# Altium footprint library Crystals.PcbLib: 10 footprints
Each footprint in its own frame and in the unit in brackets; x right, y up, seen from the top. Pads: shape width x height; smd on the part's side, far side on the other; paste and mask are expansions set on the pad; w line width, h text height; cw(c..) or ccw(c..) is an arc to the next point about the centre after c.
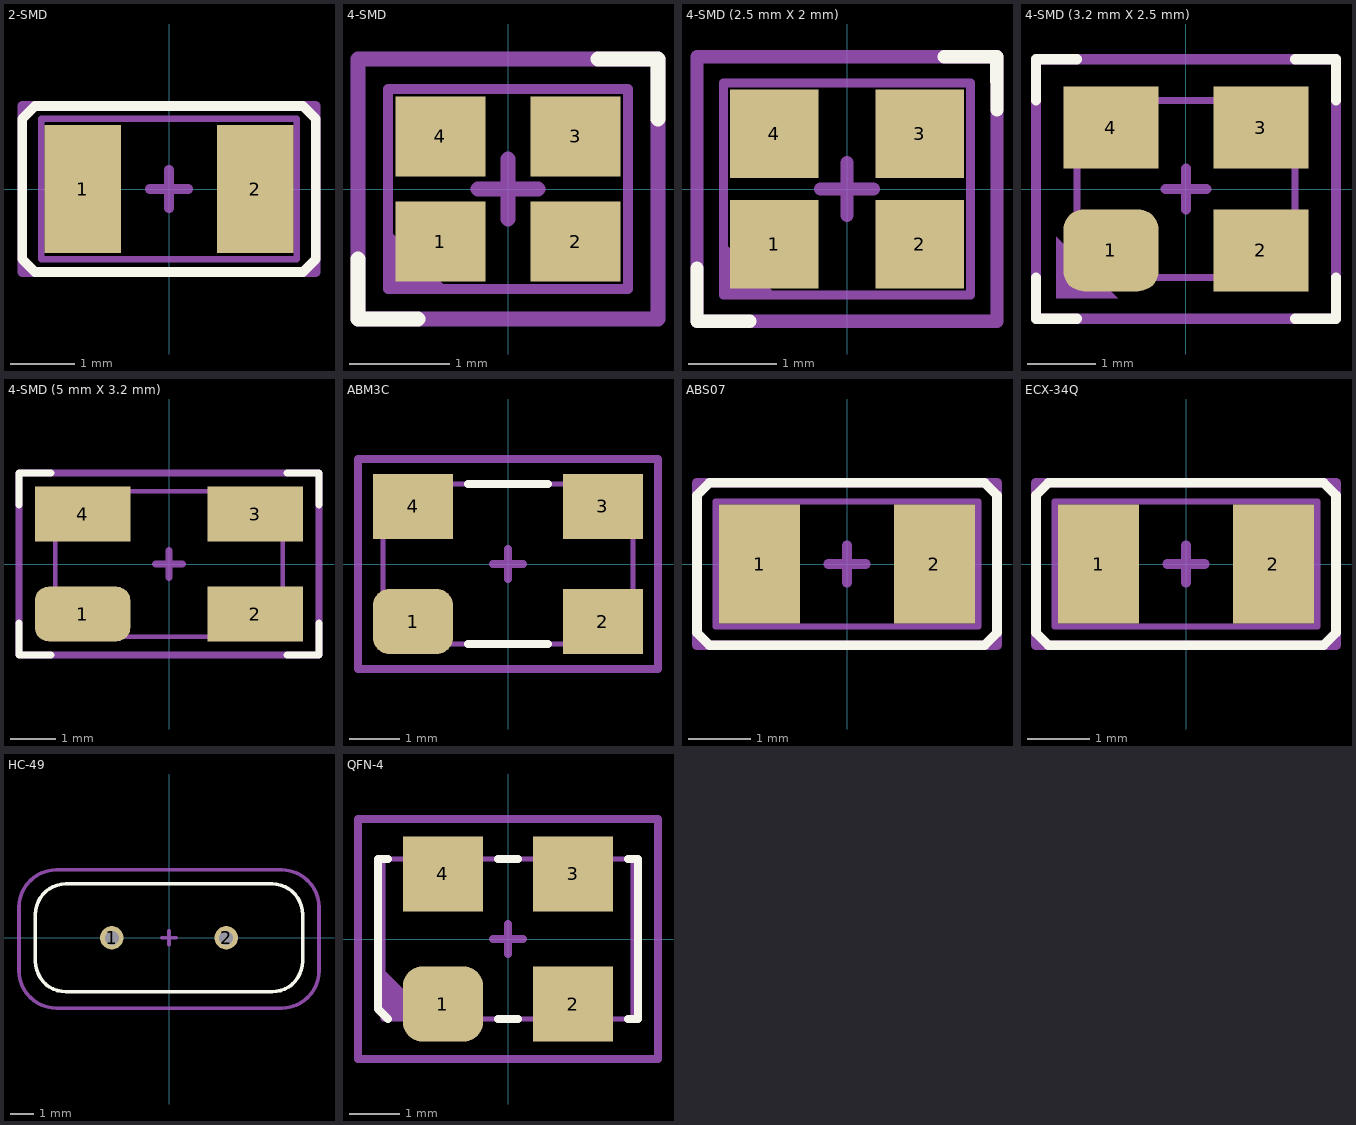
[diagram p0: the footprints below, top view; thin cyan lines are the x and y axes]

## 2-SMD [mm]
pads (2):
  rect 1.2x2 smd: 1(-1.35,0) 2(1.35,0)
Top Overlay:
  lines w0.153: -2.3,-1.1 -2.3,1.1 -2.1,1.3 2.1,1.3 2.3,1.1 2.3,-1.1 2.1,-1.3 2,-1.3 -2.1,-1.3 -2.3,-1.1
Top Assembly:
  lines w0.1: -2,-1.1 2,-1.1 2,1.1 -2,1.1 -2,-1.1
  text "'.Designator'" at -4.532,-0.333 h0.8
Top Courtyard:
  lines w0.153: -0.3,0 0.3,0 ; 0,-0.3 0,0.3 ; -2.3,-1.3 -2.3,1.3 2.3,1.3 2.3,-1.3 -2.3,-1.3
3D body "User Library-NDK_NX3215SA.step": height 0.8, standoff 0, extent -1.6,-0.75 1.6,0.75

## 4-SMD [mm]
pads (4):
  rect 0.9x0.8 smd: 1(-0.675,-0.525) 2(0.675,-0.525) 3(0.675,0.525) 4(-0.675,0.525)
Top Overlay:
  lines w0.153: -1.5,-0.7 -1.5,-1.3 -0.9,-1.3 ; 0.9,1.3 1.5,1.3 1.5,0.7
Top Assembly:
  region: -1.2,-1 -1.2,-0.4 -0.6,-1
  lines w0.1: -1.2,-1 1.2,-1 1.2,1 -1.2,1 -1.2,-1
  text "'.Designator'" at -4.532,-0.333 h0.8
Top Courtyard:
  lines w0.153: -0.3,0 0.3,0 ; 0,-0.3 0,0.3 ; -1.5,-1.3 1.5,-1.3 1.5,1.3 -1.5,1.3 -1.5,-1.3
3D body "User Library-NX2016SA.step": height 0.46, standoff -0.01, extent -1,-0.8 1,0.8

## 4-SMD (2.5 mm X 2 mm) [mm]
pads (4):
  rect 1x1 smd: 1(-0.825,-0.625) 2(0.825,-0.625) 3(0.825,0.625) 4(-0.825,0.625)
Top Overlay:
  lines w0.153: -1.7,-0.9 -1.7,-1.5 -1.1,-1.5 ; 1.1,1.5 1.7,1.5 1.7,0.9
Top Assembly:
  region: -1.4,-1.2 -1.4,-0.6 -0.8,-1.2
  lines w0.1: -1.4,-1.2 -1.4,1.2 1.4,1.2 1.4,-1.2 -1.4,-1.2
  text "'.Designator'" at -4.532,-0.333 h0.8
Top Courtyard:
  lines w0.153: -0.3,0 0.3,0 ; 0,-0.3 0,0.3 ; -1.7,-1.5 1.7,-1.5 1.7,1.5 -1.7,1.5 -1.7,-1.5
3D body "ECS-TXO-25CSMV-320-BM-TR.STEP": height 1, standoff 0, extent -1.25,-1 1.25,1

## 4-SMD (3.2 mm X 2.5 mm) [mm]
pads (4):
  rrect50% 1.4x1.2 smd: 1(-1.1,-0.9)
  rect 1.4x1.2 smd: 2(1.1,-0.9) 3(1.1,0.9) 4(-1.1,0.9)
Top Overlay:
  lines w0.153: -2.2,-1.3 -2.2,-1.9 -1.6,-1.9 ; -2.2,1.3 -2.2,1.9 -1.6,1.9 ; 1.6,-1.9 2.2,-1.9 2.2,-1.3 ; 1.6,1.9 2.2,1.9 2.2,1.3
Top Assembly:
  region: -1.9,-1.6 -1.9,-0.7 -1,-1.6
  lines w0.1: -1.6,-1.3 1.6,-1.3 1.6,1.3 -1.6,1.3 -1.6,-1.3
  text "'.Designator'" at -4.532,-0.333 h0.8
Top Courtyard:
  lines w0.153: -0.3,0 0.3,0 ; 0,-0.3 0,0.3 ; -2.2,-1.9 -2.2,1.9 2.2,1.9 2.2,-1.9 -2.2,-1.9
3D body "User Library-tsx-3225.step": height 0.6, standoff 0, extent -1.6,-1.25 1.6,1.25

## 4-SMD (5 mm X 3.2 mm) [mm]
pads (4):
  rrect50% 2.1x1.2 smd: 1(-1.9,-1.1)
  rect 2.1x1.2 smd: 2(1.9,-1.1) 3(1.9,1.1) 4(-1.9,1.1)
Top Overlay:
  lines w0.153: -3.3,-1.3 -3.3,-2 -2.6,-2 ; -3.3,1.3 -3.3,2 -2.6,2 ; 2.6,-2 3.3,-2 3.3,-1.3 ; 2.6,2 3.3,2 3.3,1.3
Top Assembly:
  region: -2.5,-1.6 -2.5,-0.7 -1.6,-1.6
  lines w0.1: -2.5,-1.6 2.5,-1.6 2.5,1.6 -2.5,1.6 -2.5,-1.6
  text "'.Designator'" at -4.532,-0.333 h0.8
Top Courtyard:
  lines w0.153: -0.3,0 0.3,0 ; 0,-0.3 0,0.3 ; -3.3,-2 -3.3,2 3.3,2 3.3,-2 -3.3,-2
3D body "User Library-SG_5032_EPSON.step": height 1, standoff 0, extent -2.5,-1.6 2.5,1.6

## ABM3C [mm]
pads (4):
  rrect50% 1.6x1.3 smd: 1(-1.9,-1.15)
  rect 1.6x1.3 smd: 2(1.9,-1.15) 3(1.9,1.15) 4(-1.9,1.15)
Top Overlay:
  lines w0.153: -0.8,-1.6 0.8,-1.6 ; -0.8,1.6 0.8,1.6
Top Assembly:
  region: -2.5,-1.6 -2.5,-0.5 -1.4,-1.6
  lines w0.1: -2.5,-1.6 -2.5,1.6 2.5,1.6 2.5,-1.6 -2.5,-1.6
  text "'.Designator'" at -4.532,-0.333 h0.8
Top Courtyard:
  lines w0.153: -0.3,0 0.3,0 ; 0,-0.3 0,0.3 ; -3,-2.1 3,-2.1 3,2.1 -3,2.1 -3,-2.1
3D body "ABM3C-25.000MHZ-D4Y-T.STEP": height 1.3, standoff 0, extent -2.5,-1.6 2.5,1.6

## ABS07 [mm]
pads (2):
  rect 1.3x1.9 smd: 1(-1.4,0) 2(1.4,0)
Top Overlay:
  lines w0.153: -2.4,-1.1 -2.4,1.1 -2.2,1.3 2.2,1.3 2.4,1.1 2.4,-1.1 2.2,-1.3 -2.2,-1.3 -2.4,-1.1
Top Assembly:
  lines w0.1: -2.1,-1 2.1,-1 2.1,1 -2.1,1 -2.1,-1
  text ".Designator" at -3.999,-0.267 h0.8
Top Courtyard:
  lines w0.153: -0.3,0 0.3,0 ; 0,-0.3 0,0.3 ; -2.4,-1.3 -2.4,1.3 2.4,1.3 2.4,-1.3 -2.4,-1.3
3D body "ABS07-120.STEP": height 0.89, standoff 0, extent -1.603,-0.752 1.603,0.752

## ECX-34Q [mm]
pads (2):
  rect 1.3x1.9 smd: 1(-1.4,0) 2(1.4,0)
Top Overlay:
  lines w0.153: -2.4,-1.1 -2.4,1.1 -2.2,1.3 2.2,1.3 2.4,1.1 2.4,-1.1 2.2,-1.3 -2.2,-1.3 -2.4,-1.1
Top Assembly:
  lines w0.1: -2.1,-1 2.1,-1 2.1,1 -2.1,1 -2.1,-1
  text ".Designator" at -3.999,-0.267 h0.8
Top Courtyard:
  lines w0.153: -0.3,0 0.3,0 ; 0,-0.3 0,0.3 ; -2.4,-1.3 -2.4,1.3 2.4,1.3 2.4,-1.3 -2.4,-1.3
3D body "ABS07-120.STEP": height 0.89, standoff 0, extent -1.603,-0.752 1.603,0.752

## HC-49 [mm]
pads (2):
  round 1 hole 0.6: 1(-2.44,0) 2(2.44,0)
Top Overlay:
  lines w0.153: -5.7,-1 ccw(c-4.4,-1) -4.4,-2.3 4.4,-2.3 ccw(c4.4,-1) 5.7,-1 5.7,1 ccw(c4.4,1) 4.4,2.3 -4.4,2.3 ccw(c-4.4,1) -5.7,1 -5.7,-1
Top Assembly:
  lines w0.1: -5.7,-1 ccw(c-4.4,-1) -4.4,-2.3 4.4,-2.3 ccw(c4.4,-1) 5.7,-1 5.7,1 ccw(c4.4,1) 4.4,2.3 -4.4,2.3 ccw(c-4.4,1) -5.7,1 -5.7,-1
  text "'.Designator'" at -4.532,-0.333 h0.8
Top Courtyard:
  lines w0.153: -0.3,0 0.3,0 ; 0,-0.3 0,0.3 ; -6.4,-1.4 ccw(c-4.8,-1.4) -4.8,-3 4.8,-3 ccw(c4.8,-1.4) 6.4,-1.4 6.4,1.3 ccw(c4.8,1.3) 4.8,2.9 -4.8,2.9 ccw(c-4.8,1.3) -6.4,1.3 -6.4,-1.4
3D body "ECS-160-S-4 (1).STEP": height 3.5, standoff -12.7, extent -5.675,-2.325 5.675,2.325

## QFN-4 [mm]
pads (4):
  rrect50% 1.6x1.5 smd: 1(-1.3,-1.3)
  rect 1.6x1.5 smd: 2(1.3,-1.3) 3(1.3,1.3) 4(-1.3,1.3)
Top Overlay:
  lines w0.153: -2.4,-1.6 -2.6,-1.4 -2.6,1.6 -2.4,1.6 ; -0.2,-1.6 0.2,-1.6 ; -0.2,1.6 0.2,1.6 ; 2.4,-1.6 2.6,-1.6 2.6,1.6 2.4,1.6
Top Assembly:
  region: -2.5,-1.6 -2.5,-0.6 -1.5,-1.6
  lines w0.1: -2.5,-1.6 2.5,-1.6 2.5,1.6 -2.5,1.6 -2.5,-1.6
  text ".Designator" at -3.999,-0.267 h0.8
Top Courtyard:
  lines w0.153: -0.3,0 0.3,0 ; 0,-0.3 0,0.3 ; -3,-2.4 -3,2.4 3,2.4 3,-2.4 -3,-2.4
3D body "User Library-ASFLM.STEP": height 0.86, standoff 0.01, extent -2.5,-1.6 2.5,1.6